# EAGLE library part LPS25H (library sensors)
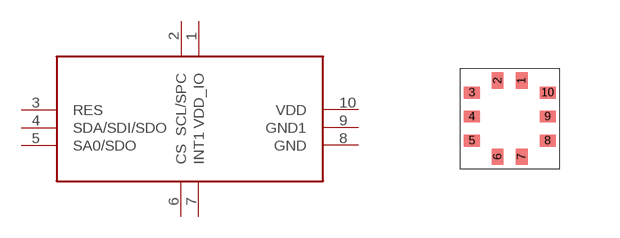
[diagram p2: symbol with the pads of LPS25H_PADS; footprint LPS25H_PADS]

Designator prefix -

## LPS25H  [LPS25H_PADS]
1  VDD_IO
2  SCL/SPC
3  RES
4  SDA/SDI/SDO
5  SA0/SDO
6  CS
7  INT1
8  GND
9  GND1
10  VDD

## Footprint LPS25H_PADS (pad centres in mm)
smd 0.3 x 0.4: 1 1.55,2.2; 2 0.95,2.2; 6 0.95,0.3; 7 1.55,0.3
smd 0.4 x 0.3: 3 0.3,1.9; 4 0.3,1.3; 5 0.3,0.7; 8 2.2,0.7; 9 2.2,1.3; 10 2.2,1.9